# Altium footprint library LTC2850CDD#PBF.PcbLib: 3 footprints
Each footprint in its own frame and in the unit in brackets; x right, y up, seen from the top. Pads: shape width x height; smd on the part's side, far side on the other; paste and mask are expansions set on the pad; w line width, h text height; cw(c..) or ccw(c..) is an arc to the next point about the centre after c.
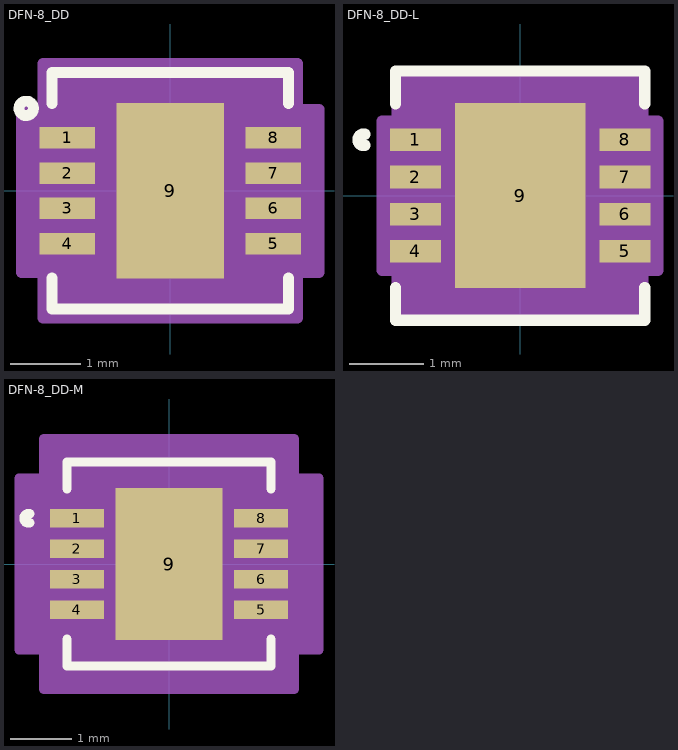
[diagram p0: the footprints below, top view; thin cyan lines are the x and y axes]

## DFN-8_DD [mil]
pads (9):
  rect 31x12 smd paste+0 mask+0: 1(-57.5,29.53) 2(-57.5,9.84) 3(-57.5,-9.84) 4(-57.5,-29.53) 5(57.5,-29.53) 6(57.5,-9.84) 7(57.5,9.84) 8(57.5,29.53)
  rect 60x98 smd paste-48.5 mask+0: 9(0,0)
Top Overlay:
  lines w6: -79.26,42.09 cw(c-80.32,45.98) -78.87,42.22 ; -66,-48.63 -66,-66 66,-66 66,-48.63 ; -66,48.63 -66,66 66,66 66,48.63
Top Paste:
  region: 30,49 -30,49 -30,-49 30,-49
Mechanical 13:
  lines w0: -12,61 ccw(c0,61) 12,61
  lines w1: -61,-61 61,-61 61,61 -61,61 -61,-61
Mechanical 15:
  region: -71,-45.53 -83,-45.53 -83,45.53 -71,45.53 -71,71 71,71 71,45.53 83,45.53 83,-45.53 71,-45.53 71,-71 -71,-71
  lines w6: -83,-45.53 -83,45.53 -71,45.53 -71,71 71,71 71,45.53 83,45.53 83,-45.53 71,-45.53 71,-71 -71,-71 -71,-45.53 -83,-45.53
3D body: height 10, standoff 0, extent 0,0 10,10
3D body "DFN-8_DD.stp": height 32.09, standoff 0, extent -60.98,-60.98 60.99,61

## DFN-8_DD-L [mil]
pads (9):
  rect 27x12 smd paste+0 mask+0: 1(-55.5,29.53) 2(-55.5,9.84) 3(-55.5,-9.84) 4(-55.5,-29.53) 5(55.5,-29.53) 6(55.5,-9.84) 7(55.5,9.84) 8(55.5,29.53)
  rect 69x98 smd paste-48.5 mask+0: 9(0,0)
Top Overlay:
  lines w6: -82.1,26.62 cw(c-82.84,29.53) -82.1,32.43 ; -66,-48.63 -66,-66 66,-66 66,-48.63 ; -66,48.63 -66,66 66,66 66,48.63
Top Paste:
  region: 34.5,49 -34.5,49 -34.5,-49 34.5,-49
Mechanical 13:
  lines w0: -12,61 ccw(c0,61) 12,61
  lines w1: -61,-61 -61,61 61,61 61,-61 -61,-61
Mechanical 15:
  region: -65,-39.53 -73,-39.53 -73,39.53 -65,39.53 -65,65 65,65 65,39.53 73,39.53 73,-39.53 65,-39.53 65,-65 -65,-65
  lines w6: -73,-39.53 -65,-39.53 -65,-65 65,-65 65,-39.53 73,-39.53 73,39.53 65,39.53 65,65 -65,65 -65,39.53 -73,39.53 -73,-39.53
3D body: height 10, standoff 0, extent 0,0 10,10
3D body "DFN-8_DD-L.stp": height 32.09, standoff 0, extent -60.98,-60.98 60.99,60.99

## DFN-8_DD-M [mil]
pads (9):
  rect 35x12 smd paste+0 mask+0: 1(-59.5,29.53) 2(-59.5,9.84) 3(-59.5,-9.84) 4(-59.5,-29.53) 5(59.5,-29.53) 6(59.5,-9.84) 7(59.5,9.84) 8(59.5,29.53)
  rect 69x98 smd paste-48.5 mask+0: 9(0,0)
Top Overlay:
  lines w6: -90.1,26.62 cw(c-90.84,29.53) -90.1,32.43 ; -66,-48.63 -66,-66 66,-66 66,-48.63 ; -66,48.63 -66,66 66,66 66,48.63
Top Paste:
  region: 34.5,49 -34.5,49 -34.5,-49 34.5,-49
Mechanical 13:
  lines w0: -12,61 ccw(c0,61) 12,61
  lines w1: -61,-61 -61,61 61,61 61,-61 -61,-61
Mechanical 15:
  region: -81,-55.53 -97,-55.53 -97,55.53 -81,55.53 -81,81 81,81 81,55.53 97,55.53 97,-55.53 81,-55.53 81,-81 -81,-81
  lines w6: -97,-55.53 -81,-55.53 -81,-81 81,-81 81,-55.53 97,-55.53 97,55.53 81,55.53 81,81 -81,81 -81,55.53 -97,55.53 -97,-55.53
3D body "DFN-8_DD-M.stp": height 32.09, standoff 0, extent -60.98,-60.98 60.99,60.99
3D body: height 10, standoff 0, extent 0,0 10,10